# EAGLE library part TPS63700 (library ICs)
DC-DC Switching Inverting Regulator, Adjustable, 2.7V-5.5Vin, -15V--2Vout, 360mAout, SON-10
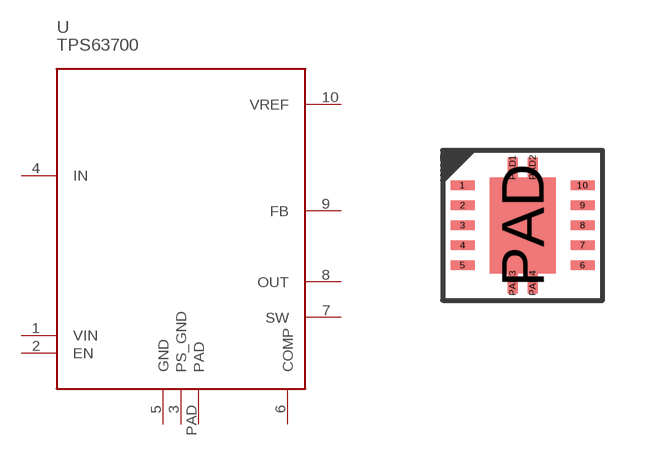
[diagram p98: symbol with the pads of VSON10; footprint VSON10]

Designator prefix U

## TPS63700DRCT (FARNELL: 1755477; PRICE_PER: 2.13; VALUE: TPS63700)  [VSON10]
1  VIN
2  EN
3  PS_GND
4  IN
5  GND
6  COMP
7  SW
8  OUT
9  FB
10  VREF
PAD  PAD

## Footprint VSON10 (pad centres in mm)
smd 0.6 x 0.24: 1 -1.5,1; 2 -1.5,0.5; 3 -1.5,0; 4 -1.5,-0.5; 5 -1.5,-1; 6 1.5,-1; 7 1.5,-0.5; 8 1.5,0; 9 1.5,0.5; 10 1.5,1
smd 1.65 x 2.4: PAD 0,0
smd 0.25 x 0.5: PAD1 -0.25,1.45; PAD2 0.25,1.45; PAD3 -0.25,-1.45; PAD4 0.25,-1.45